# EAGLE library part TDA8922J (library Audio-Power-amlifier V.2.0)
2 ´ 25 W class-D power amplifier
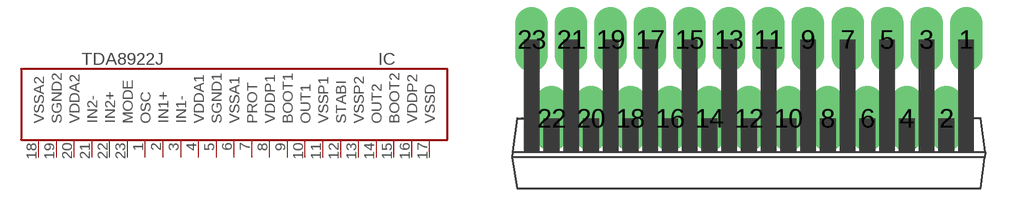
[diagram p219: symbol with the pads of SOT411-1; footprint SOT411-1]

Designator prefix IC

## TDA8922J  [SOT411-1]
1  OSC  in
2  IN1+  in
3  IN1-  in
4  VDDA1  pwr
5  SGND1  pwr
6  VSSA1  pwr
7  PROT
8  VDDP1  pwr
9  BOOT1
10  OUT1  out
11  VSSP1  pwr
12  STABI
13  VSSP2  pwr
14  OUT2  out
15  BOOT2
16  VDDP2  pwr
17  VSSD  pwr
18  VSSA2  pwr
19  SGND2  pwr
20  VDDA2  pwr
21  IN2-  in
22  IN2+  in
23  MODE  in

## Footprint SOT411-1 (pad centres in mm)
drill 1.4 long: 1 13.97,5.08; 2 12.7,0; 3 11.43,5.08; 4 10.16,0; 5 8.89,5.08; 6 7.62,0; 7 6.35,5.08; 8 5.08,0; 9 3.81,5.08; 10 2.54,0; 11 1.27,5.08; 12 0,0; 13 -1.27,5.08; 14 -2.54,0; 15 -3.81,5.08; 16 -5.08,0; 17 -6.35,5.08; 18 -7.62,0; 19 -8.89,5.08; 20 -10.16,0; 21 -11.43,5.08; 22 -12.7,0; 23 -13.97,5.08